# Altium footprint library INFINITY.Capacitor.PcbLib: 6 footprints
Each footprint in its own frame and in the unit in brackets; x right, y up, seen from the top. Pads: shape width x height; smd on the part's side, far side on the other; paste and mask are expansions set on the pad; w line width, h text height; cw(c..) or ccw(c..) is an arc to the next point about the centre after c.
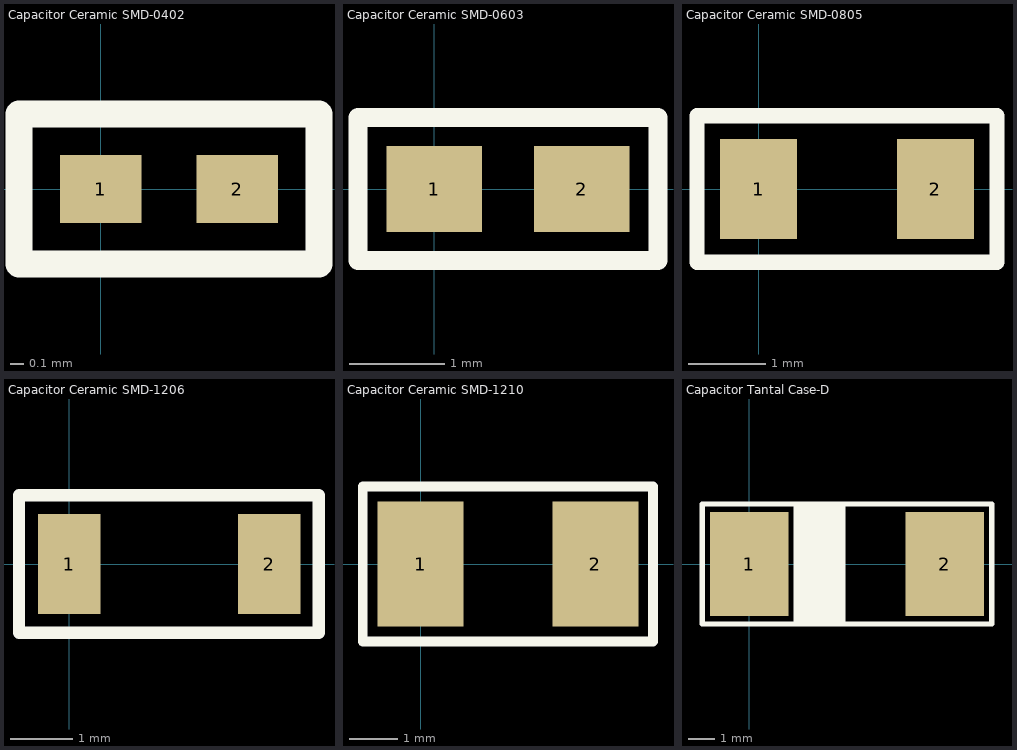
[diagram p0: the footprints below, top view; thin cyan lines are the x and y axes]

## Capacitor Ceramic SMD-0402 [mm]
pads (2):
  rect 0.6x0.5 smd: 1(0,0) 2(1,0)
Top Overlay:
  lines w0.2: -0.6,-0.55 1.6,-0.55 1.6,0.55 -0.6,0.55 -0.6,-0.55
3D body "Capacitor Ceramic SMD-0402.STEP": height 0.5, standoff 0, extent 0,-0.25 1,0.25

## Capacitor Ceramic SMD-0603 [mm]
pads (2):
  rect 1x0.9 smd: 1(0,0) 2(1.55,0)
Top Overlay:
  lines w0.2: -0.8,-0.75 -0.8,0.75 2.35,0.75 2.35,-0.75 -0.8,-0.75
3D body "Capacitor Ceramic SMD-0603.step": height 0.87, standoff 0, extent -0.1,-0.475 1.65,0.475

## Capacitor Ceramic SMD-0805 [mm]
pads (2):
  rect 1x1.3 smd: 1(0,0) 2(2.3,0)
Top Overlay:
  lines w0.2: -0.8,-0.95 3.1,-0.95 3.1,0.95 -0.8,0.95 -0.8,-0.95
3D body "Capacitor CeramiC SMD-0805.step": height 0.88, standoff 0, extent 0.025,-0.75 2.225,0.7

## Capacitor Ceramic SMD-1206 [mm]
pads (2):
  rect 1x1.6 smd: 1(0,0) 2(3.2,0)
Top Overlay:
  lines w0.2: -0.8,-1.1 -0.8,1.1 4,1.1 4,-1.1 -0.8,-1.1
3D body "Capacitor Ceramic SMD-1206.step": height 0.88, standoff 0, extent -0.125,-0.925 3.275,0.875

## Capacitor Ceramic SMD-1210 [mil]
pads (2):
  rect 70x102 smd: 1(0,0) 2(142,0)
Top Overlay:
  lines w7.87: -47.24,-62.99 188.98,-62.99 188.98,62.99 -47.24,62.99 -47.24,-62.99
3D body "Capacitor Ceramic SMD-1210.STEP": height 41.34, standoff 0, extent 3.94,-55.12 137.8,51.18

## Capacitor Tantal Case-D [mm]
height 3
pads (2):
  rect 3x4 smd: 1(0,0) 2(7.5,0)
Top Overlay:
  rectangle: 1.7,-2.3 3.7,2.3
  lines w0.2: -1.8,-2.3 9.3,-2.3 9.3,2.3 -1.8,2.3 -1.8,-2.3
3D body "TR3 D-CASE.stp": height 2.93, standoff 0.01, extent 0.312,-2.208 7.5,2.208